# Altium integrated library Infineon_Power_Supply_Voltage_Regulator.IntLib: 346 symbols (part 11 of 16)
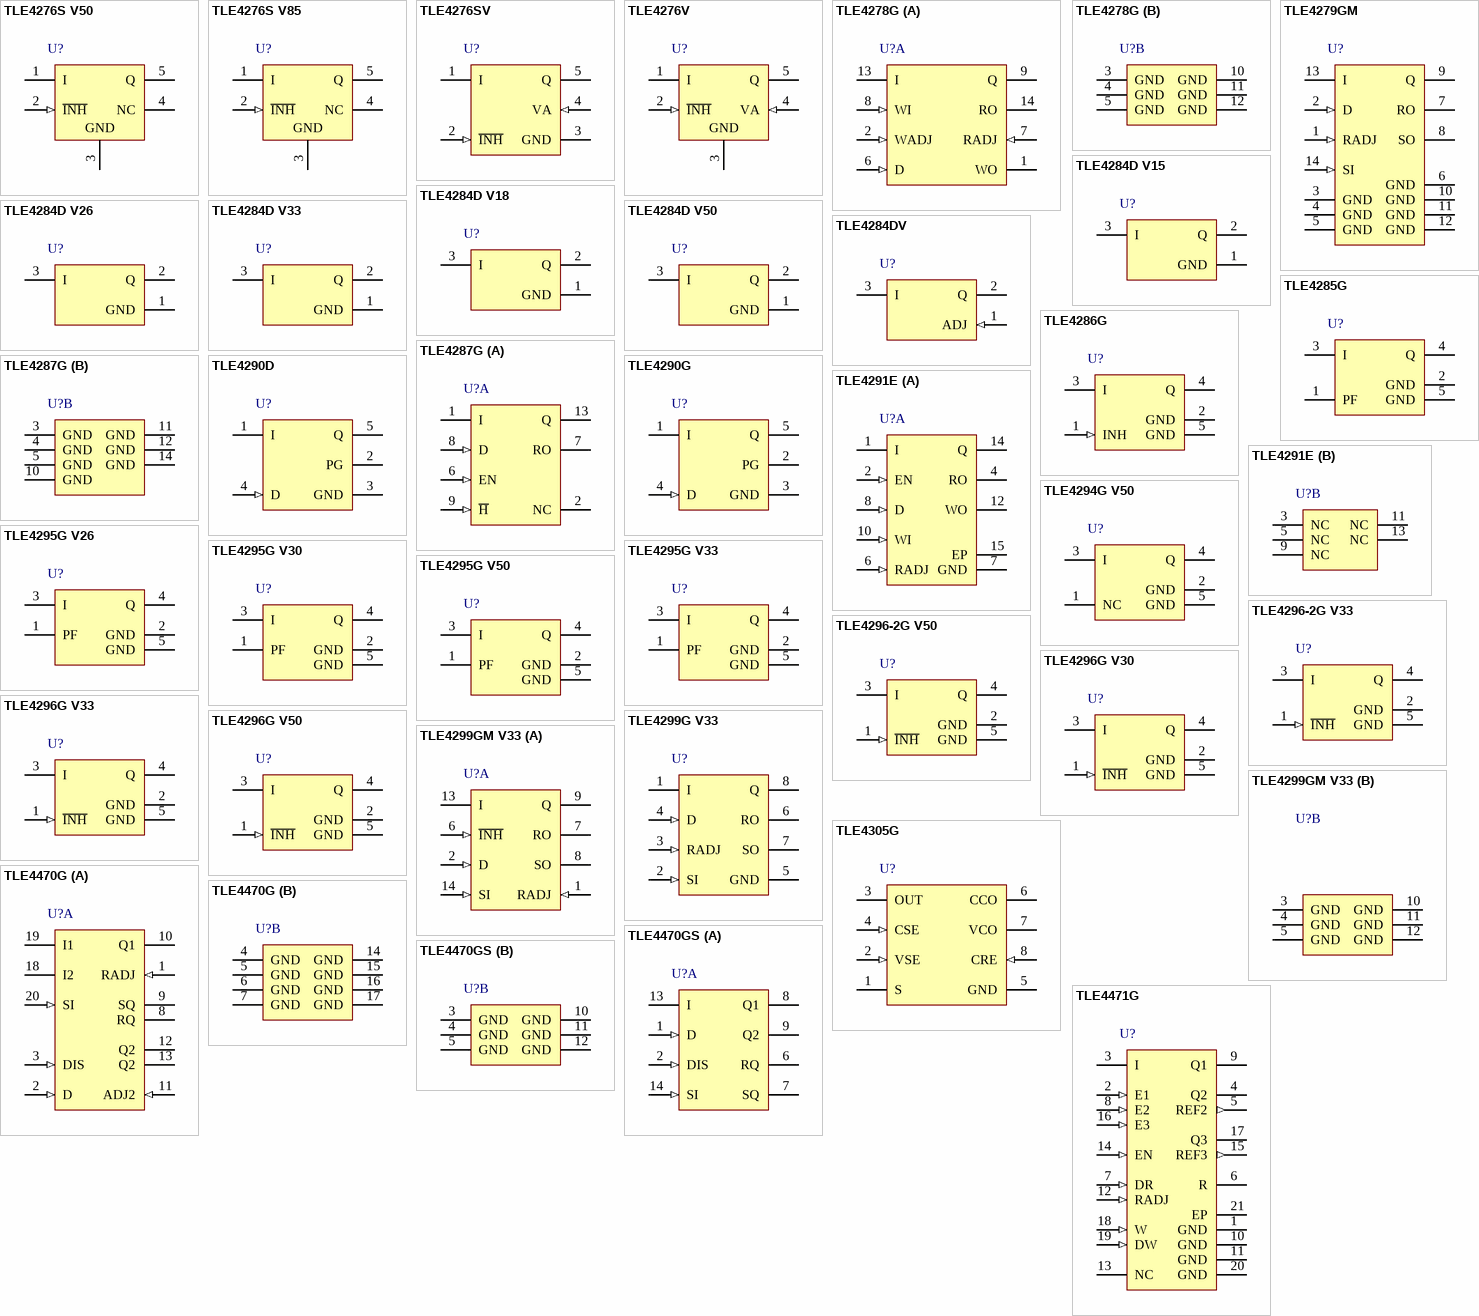
[diagram p19: symbols TLE4276S V50 to TLE4471G]

## TLE4295G V30
designator U?
Low Drop Voltage Regulator, 3.5 to 40 V Supply, 3 V Output, -40 to 150 degC, PG-SCT595, Reel; Manufacturer: Infineon; PartNumber: TLE4295G V30; Accuracy: 4 %; Dropout Voltage: 250 mV; Max. Output Current: 30 mA; Output Voltage: 3 V; Regulator Type: single output; Typical Quiescent Current: 120 uA; DatasheetVersion: Rev. 1.4; PackageVersion: Apr-08; PackageReference: PG-SCT595; PackageDescription: 5-Pin Semiconductor Transistor Package, 2.9 x 1.6 mm Body, 0.95 mm Pitch; Supplier 1: Mouser; Supplier Part Number 1: 726-TLE4295GV30; Supplier 2: Digi-Key; Supplier Part Number 2: TLE4295GV30-ND; Operating Range: 3.5 to 40 V; Packing: Reel; Mounting Technology: Surface Mount; ComponentLink1Description: Manufacturer URL; ComponentLink1URL: http://www.infineon.com/; ComponentLink2Description: Datasheet; ComponentLink2URL: http://www.infineon.com/dgdl/TLE4295_DS_14.pdf?folderId=db3a304412b407950112b4352a0a6276&fileId=db3a304412b407950112b4352a826277&location=en.Products.Automotive_ICs.Linear_Voltage_Regulators_for_Automotive-Applications.Linear_Voltage_Regulators_-_Selection_Table.DATASHEET.TLE4295_DS_14.pdf; ComponentLink3Description: Package Specification; ComponentLink3URL: http://www.infineon.com/dgdl/SCT595-Package_Overview.pdf?folderId=db3a30431936bc4b01195289a4e23b8a&fileId=db3a30431936bc4b0119529a880d3bb2
footprint INF-PG-SCT595_V (SOT23, 5-Leads, Body 2.9x1.6mm, Pitch 0.95mm)
pins: 1 PF (oc) "Power Fail;L for under-voltage", 2 GND (power) "Ground;connected to pin 5", 3 I (power) "Input voltage", 4 Q (power) "Output voltage;must be blocked a capacitor CQ>=2.2uF, ESR<=5 ohm  to GND(Tantalum capasitor recommended as output capacitor)", 5 GND (power) "Ground;connected to pin2"

## TLE4295G V33
designator U?
Low Drop Voltage Regulator, 3.8 to 40 V Supply, 3.3 V Output, -40 to 150 degC, PG-SCT595, Reel, Green; Manufacturer: Infineon; PartNumber: TLE4295G V33; Accuracy: 4 %; Dropout Voltage: 250 mV; Max. Output Current: 30 mA; Output Voltage: 3.3 V; Regulator Type: single output; Typical Quiescent Current: 120 uA; DatasheetVersion: Rev. 1.4; PackageVersion: Apr-08; PackageReference: PG-SCT595; PackageDescription: 5-Pin Semiconductor Transistor Package, 2.9 x 1.6 mm Body, 0.95 mm Pitch; Supplier 1: Mouser; Supplier Part Number 1: 726-TLE4295GV33; Supplier 2: Digi-Key; Supplier Part Number 2: TLE4295G V33-ND; Operating Range: 3.8 to 40 V; Packing: Reel; Mounting Technology: Surface Mount; ComponentLink1Description: Manufacturer URL; ComponentLink1URL: http://www.infineon.com/; ComponentLink2Description: Datasheet; ComponentLink2URL: http://www.infineon.com/dgdl/TLE4295_DS_14.pdf?folderId=db3a304412b407950112b4352a0a6276&fileId=db3a304412b407950112b4352a826277&location=en.Products.Automotive_ICs.Linear_Voltage_Regulators_for_Automotive-Applications.Linear_Voltage_Regulators_-_Selection_Table.DATASHEET.TLE4295_DS_14.pdf; ComponentLink3Description: Package Specification; ComponentLink3URL: http://www.infineon.com/dgdl/SCT595-Package_Overview.pdf?folderId=db3a30431936bc4b01195289a4e23b8a&fileId=db3a30431936bc4b0119529a880d3bb2
footprint INF-PG-SCT595_V (SOT23, 5-Leads, Body 2.9x1.6mm, Pitch 0.95mm)
pins: 1 PF (oc) "Power Fail;L for under-voltage", 2 GND (power) "Ground;connected to pin 5", 3 I (power) "Input voltage", 4 Q (power) "Output voltage;must be blocked a capacitor CQ>=2.2uF, ESR<=5 ohm  to GND(Tantalum capasitor recommended as output capacitor)", 5 GND (power) "Ground;connected to pin2"

## TLE4295G V50
designator U?
Low Drop Voltage Regulator, 5.5 to 45 V Supply, 5 V Output, -40 to 150 degC, PG-SCT595, Reel; Manufacturer: Infineon; PartNumber: TLE4295G V50; Accuracy: 4 %; Dropout Voltage: 250 mV; Max. Output Current: 30 mA; Output Voltage: 5 V; Regulator Type: single output; Typical Quiescent Current: 120 uA; DatasheetVersion: Rev. 1.4; PackageVersion: Apr-08; PackageReference: PG-SCT595; PackageDescription: 5-Pin Semiconductor Transistor Package, 2.9 x 1.6 mm Body, 0.95 mm Pitch; Supplier 1: Mouser; Supplier Part Number 1: 726-TLE4295GV50; Supplier 2: Digi-Key; Supplier Part Number 2: TLE4295GV50TR-ND; Supplier 3: Digi-Key; Supplier Part Number 3: TLE4295GV50CT-ND; Supplier 4: Digi-Key; Supplier Part Number 4: TLE4295GV50DKR-ND; Operating Range: 5.5 to 45 V; Packing: Reel; Mounting Technology: Surface Mount; ComponentLink1Description: Manufacturer URL; ComponentLink1URL: http://www.infineon.com/; ComponentLink2Description: Datasheet; ComponentLink2URL: http://www.infineon.com/dgdl/TLE4295_DS_14.pdf?folderId=db3a304412b407950112b4352a0a6276&fileId=db3a304412b407950112b4352a826277&location=en.Products.Automotive_ICs.Linear_Voltage_Regulators_for_Automotive-Applications.Linear_Voltage_Regulators_-_Selection_Table.DATASHEET.TLE4295_DS_14.pdf; ComponentLink3Description: Package Specification; ComponentLink3URL: http://www.infineon.com/dgdl/SCT595-Package_Overview.pdf?folderId=db3a30431936bc4b01195289a4e23b8a&fileId=db3a30431936bc4b0119529a880d3bb2
footprint INF-PG-SCT595_V (SOT23, 5-Leads, Body 2.9x1.6mm, Pitch 0.95mm)
pins: 1 PF (oc) "Power Fail;L for under-voltage", 2 GND (power) "Ground;connected to pin 5", 3 I (power) "Input voltage", 4 Q (power) "Output voltage;must be blocked a capacitor CQ>=2.2uF, ESR<=5 ohm  to GND(Tantalum capasitor recommended as output capacitor)", 5 GND (power) "Ground;connected to pin2"

## TLE4296-2G V33
designator U?
Low Drop Voltage Regulator, 4 to 45 V Supply, 3.3 V Output, -40 to 150 degC, PG-SCT595, Reel, Green; Manufacturer: Infineon; PartNumber: TLE4296-2G V33; Accuracy: 4 %; Dropout Voltage: 250 mV; Green: TRUE; Max. Output Current: 30 mA; Operating Range: 4 to 45 V; Output Voltage: 3.3 V; Regulator Type: single output; Typical Quiescent Current: 130 uA; DatasheetVersion: Rev. 1.12; PackageVersion: Apr-08; PackageReference: PG-SCT595; PackageDescription: 5-Pin Semiconductor Transistor Package, 2.9 x 1.6 mm Body, 0.95 mm Pitch; Supplier 1: Mouser; Supplier Part Number 1: 726-TLE42962GV33; Supplier 2: Digi-Key; Supplier Part Number 2: TLE4296-2G V33INTR-ND; Supplier 3: Digi-Key; Supplier Part Number 3: TLE4296-2G V33INCT-ND; Supplier 4: Digi-Key; Supplier Part Number 4: TLE4296-2G V33INDKR-ND; Packing: Reel; Mounting Technology: Surface Mount; ComponentLink1Description: Manufacturer URL; ComponentLink1URL: http://www.infineon.com/; ComponentLink2Description: Datasheet; ComponentLink2URL: http://www.infineon.com/dgdl/TLE4296-2_DS_112.pdf?folderId=db3a304314dca38901152836c5a412ab&fileId=db3a304317a748360117cafa28d029b5&location=en.Products.Automotive_ICs.Linear_Voltage_Regulators_for_Automotive-Applications.Linear_Voltage_Regulators_-_Selection_Table.DATASHEET.TLE4296-2_DS_112.pdf; ComponentLink3Description: Package Specification; ComponentLink3URL: http://www.infineon.com/dgdl/SCT595-Package_Overview.pdf?folderId=db3a30431936bc4b01195289a4e23b8a&fileId=db3a30431936bc4b0119529a880d3bb2
footprint INF-PG-SCT595_V (SOT23, 5-Leads, Body 2.9x1.6mm, Pitch 0.95mm)
pins: 1 ~{INH} (in) "Inhibit Input: high level to turn on the IC", 2 GND (power) "Ground: connected to pin 5", 3 I (power) "Input Voltage", 4 Q (power) "Output voltage: must be blocked with a ceramic capacitor CQ >= 3.3 uF, ESR =< 2 ohm", 5 GND (power) "Ground: Connected to pin 2"

## TLE4296-2G V50
designator U?
Low Drop Voltage Regulator, 5.5 to 45 V Supply, 5 V Output, -40 to 150 degC, PG-SCT595, Reel, Green; Manufacturer: Infineon; PartNumber: TLE4296-2G V50; Accuracy: 4 %; Dropout Voltage: 250 mV; Green: TRUE; Max. Output Current: 30 mA; Output Voltage: 5 V; Regulator Type: single output; Typical Quiescent Current: 130 uA; DatasheetVersion: Rev. 1.12; PackageVersion: Apr-08; PackageReference: PG-SCT595; PackageDescription: 5-Pin Semiconductor Transistor Package, 2.9 x 1.6 mm Body, 0.95 mm Pitch; Supplier 1: Mouser; Supplier Part Number 1: 726-TLE42962GV50; Supplier 2: Digi-Key; Supplier Part Number 2: TLE4296-2G V50TR-ND; Supplier 3: Digi-Key; Supplier Part Number 3: TLE4296-2G V50CT-ND; Supplier 4: Digi-Key; Supplier Part Number 4: TLE4296-2G V50DKR-ND; Operating Range: 5.5 to 45 V; Packing: Reel; Mounting Technology: Surface Mount; ComponentLink1Description: Manufacturer URL; ComponentLink1URL: http://www.infineon.com/; ComponentLink2Description: Datasheet; ComponentLink2URL: http://www.infineon.com/dgdl/TLE4296-2_DS_112.pdf?folderId=db3a304314dca38901152836c5a412ab&fileId=db3a304317a748360117cafa28d029b5&location=en.Products.Automotive_ICs.Linear_Voltage_Regulators_for_Automotive-Applications.Linear_Voltage_Regulators_-_Selection_Table.DATASHEET.TLE4296-2_DS_112.pdf; ComponentLink3Description: Package Specification; ComponentLink3URL: http://www.infineon.com/dgdl/SCT595-Package_Overview.pdf?folderId=db3a30431936bc4b01195289a4e23b8a&fileId=db3a30431936bc4b0119529a880d3bb2
footprint INF-PG-SCT595_V (SOT23, 5-Leads, Body 2.9x1.6mm, Pitch 0.95mm)
pins: 1 ~{INH} (in) "Inhibit Input: high level to turn on the IC", 2 GND (power) "Ground: connected to pin 5", 3 I (power) "Input Voltage", 4 Q (power) "Output voltage: must be blocked with a ceramic capacitor CQ >= 3.3 uF, ESR =< 2 ohm", 5 GND (power) "Ground: Connected to pin 2"

## TLE4296G V30
designator U?
Low Drop Voltage Regulator, 4 to 45 V Supply, 3 V Output, -40 to 150 degC, PG-SCT595, Reel, Green; Manufacturer: Infineon; PartNumber: TLE4296G V30; Accuracy: 4 %; Dropout Voltage: 250 mV; Green: TRUE; Max. Output Current: 30 mA; Operating Range: 4 to 45 V; Output Voltage: 3 V; Regulator Type: single output; Typical Quiescent Current: 110 uA; DatasheetVersion: Rev. 1.1; PackageVersion: Apr-08; PackageReference: PG-SCT595; PackageDescription: 5-Pin Semiconductor Transistor Package, 2.9 x 1.6 mm Body, 0.95 mm Pitch; Supplier 1: Mouser; Supplier Part Number 1: 726-TLE4296GV30; Supplier 2: Digi-Key; Supplier Part Number 2: TLE4296G V30-ND; Packing: Reel; Mounting Technology: Surface Mount; ComponentLink1Description: Manufacturer URL; ComponentLink1URL: http://www.infineon.com/; ComponentLink2Description: Datasheet; ComponentLink2URL: http://www.infineon.com/dgdl/TLE4296_DS_11.pdf?folderId=db3a304412b407950112b435337c628d&fileId=db3a304412b407950112b43533f7628e&location=en.Products.Automotive_ICs.Linear_Voltage_Regulators_for_Automotive-Applications.Linear_Voltage_Regulators_-_Selection_Table.DATASHEET.TLE4296_DS_11.pdf; ComponentLink3Description: Package Specification; ComponentLink3URL: http://www.infineon.com/dgdl/SCT595-Package_Overview.pdf?folderId=db3a30431936bc4b01195289a4e23b8a&fileId=db3a30431936bc4b0119529a880d3bb2
footprint INF-PG-SCT595_V (SOT23, 5-Leads, Body 2.9x1.6mm, Pitch 0.95mm)
pins: 1 ~{INH} (in) "Inhibit input;high level to turn IC on", 2 GND (power) "Ground;connected to pin5", 3 I (power) "Input voltage", 4 Q (power) "Output voltage;must be blocked by a capacitaor CQ>=2.2 uF, 3 ohm<=ESR<=10 ohm", 5 GND (power) "Ground;connected to pin2"

## TLE4296G V33
designator U?
Low Drop Voltage Regulator, 4 to 45 V Supply, 3.3 V Output, -40 to 150 degC, PG-SCT595, Reel, Green; Manufacturer: Infineon; PartNumber: TLE4296G V33; Accuracy: 4 %; Dropout Voltage: 250 mV; Max. Output Current: 30 mA; Operating Range: 4 to 45 V; Output Voltage: 3.3 V; Regulator Type: single output; Typical Quiescent Current: 110 uA; DatasheetVersion: Rev. 1.1; PackageVersion: Apr-08; PackageReference: PG-SCT595; PackageDescription: 5-Pin Semiconductor Transistor Package, 2.9 x 1.6 mm Body, 0.95 mm Pitch; Supplier 1: Mouser; Supplier Part Number 1: 726-TLE4296GV33; Supplier 2: Digi-Key; Supplier Part Number 2: TLE4296G V33-ND; Packing: Reel; Mounting Technology: Surface Mount; ComponentLink1Description: Manufacturer URL; ComponentLink1URL: http://www.infineon.com/; ComponentLink2Description: Datasheet; ComponentLink2URL: http://www.infineon.com/dgdl/TLE4296_DS_11.pdf?folderId=db3a304412b407950112b435337c628d&fileId=db3a304412b407950112b43533f7628e&location=en.Products.Automotive_ICs.Linear_Voltage_Regulators_for_Automotive-Applications.Linear_Voltage_Regulators_-_Selection_Table.DATASHEET.TLE4296_DS_11.pdf; ComponentLink3Description: Package Specification; ComponentLink3URL: http://www.infineon.com/dgdl/SCT595-Package_Overview.pdf?folderId=db3a30431936bc4b01195289a4e23b8a&fileId=db3a30431936bc4b0119529a880d3bb2
footprint INF-PG-SCT595_V (SOT23, 5-Leads, Body 2.9x1.6mm, Pitch 0.95mm)
pins: 1 ~{INH} (in) "Inhibit input;high level to turn IC on", 2 GND (power) "Ground;connected to pin5", 3 I (power) "Input voltage", 4 Q (power) "Output voltage;must be blocked by a capacitaor CQ>=2.2uF, 3ohm<=ESR<=10ohm", 5 GND (power) "Ground;connected to pin2"

## TLE4296G V50
designator U?
Low Drop Voltage Regulator, 5.5 to 45 V Supply, 5 V Output, -40 to 150 degC, PG-SCT595, Reel, Green; Manufacturer: Infineon; PartNumber: TLE4296G V50; Accuracy: 4 %; Dropout Voltage: 250 mV; Max. Output Current: 30 mA; Output Voltage: 5 V; Regulator Type: single output; Typical Quiescent Current: 110 uA; DatasheetVersion: Rev. 1.1; PackageVersion: Apr-08; PackageReference: PG-SCT595; PackageDescription: 5-Pin Semiconductor Transistor Package, 2.9 x 1.6 mm Body, 0.95 mm Pitch; Supplier 1: Mouser; Supplier Part Number 1: 726-TLE4296GV50; Supplier 2: Digi-Key; Supplier Part Number 2: TLE4296G V50-ND; Operating Range: 5.5 to 45 V; Packing: Reel; Mounting Technology: Surface Mount; ComponentLink1Description: Manufacturer URL; ComponentLink1URL: http://www.infineon.com/; ComponentLink2Description: Datasheet; ComponentLink2URL: http://www.infineon.com/dgdl/TLE4296_DS_11.pdf?folderId=db3a304412b407950112b435337c628d&fileId=db3a304412b407950112b43533f7628e&location=en.Products.Automotive_ICs.Linear_Voltage_Regulators_for_Automotive-Applications.Linear_Voltage_Regulators_-_Selection_Table.DATASHEET.TLE4296_DS_11.pdf; ComponentLink3Description: Package Specification; ComponentLink3URL: http://www.infineon.com/dgdl/SCT595-Package_Overview.pdf?folderId=db3a30431936bc4b01195289a4e23b8a&fileId=db3a30431936bc4b0119529a880d3bb2
footprint INF-PG-SCT595_V (SOT23, 5-Leads, Body 2.9x1.6mm, Pitch 0.95mm)
pins: 1 ~{INH} (in) "Inhibit input;high level to turn IC on", 2 GND (power) "Ground;connected to pin5", 3 I (power) "Input voltage", 4 Q (power) "Output voltage;must be blocked by a capacitaor CQ>=2.2uF, 3ohm<=ESR<=10ohm", 5 GND (power) "Ground;connected to pin2"

## TLE4299G V33
designator U?
Low Drop Fixed Voltage Regulator, 4.4 to 45 V Supply, 3.3 V Output, -40 to 150 degC, PG-DSO-8-16, Reel, Green; Manufacturer: Infineon; PartNumber: TLE4299G V33; Accuracy: 2 %; Dropout Voltage: 250 mV; Green: TRUE; Max. Output Current: 150 mA; Output Voltage: 3.3 V; Regulator Type: single output; Typical Quiescent Current: 65 uA; DatasheetVersion: Rev. 1.1; PackageVersion: Mar-07; PackageReference: PG-DSO-8-16; PackageDescription: 8-Pin Plastic (Green) Dual Small Outline Package, 4.9 x 3.9 mm Body, 1.27 mm Pitch; Supplier 1: Mouser; Supplier Part Number 1: 726-TLE4299GV33; Supplier 2: Digi-Key; Supplier Part Number 2: TLE4299G V33TR-ND; Supplier 3: Digi-Key; Supplier Part Number 3: TLE4299G V33CT-ND; Supplier 4: Digi-Key; Supplier Part Number 4: TLE4299G V33DKR-ND; Halogen-free: TRUE; Operating Range: 4.4 to 45 V; Packing: Reel; Mounting Technology: Surface Mount; ComponentLink1Description: Manufacturer URL; ComponentLink1URL: http://www.infineon.com/; ComponentLink2Description: Datasheet; ComponentLink2URL: http://www.infineon.com/dgdl/TLE4299v33_DS_11%5B1%5D.pdf?folderId=db3a304318f3fe290118f5a433570040&fileId=db3a30431c48a312011c55c733b0022b&location=en.Products.Automotive_ICs.Linear_Voltage_Regulators_for_Automotive-Applications.Linear_Voltage_Regulators_-_Selection_Table.DATASHEET.TLE4299v33_DS_11[1].pdf; ComponentLink3Description: Package Specification; ComponentLink3URL: http://www.infineon.com/dgdl/TLE7259-2GE_DS_rev12.pdf?folderId=db3a3043163797a6011666d32a0c0de1&fileId=db3a3043163797a6011666d4dbb80de2&location=en.Products.Automotive_ICs.Automotive_Transceivers.LIN_Transceivers.DATASHEET.TLE7259-2GE_DS_rev12.pdf
footprint INF-PG-DSO-8-16_N (SOP, 8-Leads, Body 4.9x3.9mm, Pitch 1.27mm, IPC Medium Density)
footprint INF-PG-DSO-8-16_L (SOP, 8-Leads, Body 4.9x3.9mm, Pitch 1.27mm, IPC High Density)
footprint INF-PG-DSO-8-16_M (SOP, 8-Leads, Body 4.9x3.9mm, Pitch 1.27mm, IPC Low Density)
pins: 1 I (power) "Input; block directly to GND on the IC with a ceramic capacitor.", 2 SI (in) "Sense Input; if not needed connect to Q.", 3 RADJ (in) "Reset Threshold Adjust; if not needed connect to GND.", 4 D (in) "Reset Delay; to select delay time, connect to GND via external  capacitor.", 5 GND (power) "Ground", 6 RO (oc) "Reset Output; the open-collector output is linked internally to Q  via a 20k ohm pull-up resistor. Keep open, if the pin is not needed.", 7 SO (oc) "Sense Output; open-collector output. Keep open, if the pin is not  needed.", 8 Q (power) "Output; connect to GND with a 22 uF capacitor, 0.4 ohm <  ESR < 3.7 ohm."

## TLE4299GM V33
designator U?
Low Drop Fixed Voltage Regulator, 4.4 to 45 V Supply, 3.3 V Output, -40 to 150 degC, PG-DSO-14-30, Reel, Green; Manufacturer: Infineon; PartNumber: TLE4299GM V33; Accuracy: 2 %; Dropout Voltage: 250 mV; Green: TRUE; Max. Output Current: 150 mA; Output Voltage: 3.3V; Regulator Type: single output; Typical Quiescent Current: 65 uA; DatasheetVersion: Rev. 1.1; PackageVersion: Oct-07; PackageReference: PG-DSO-14-30; PackageDescription: 14-Pin Plastic (Green) Dual Small Outline Package, 8.65 x 3.9 mm Body, 1.27 mm Pitch; Supplier 1: Mouser; Supplier Part Number 1: 726-TLE4299GMV33; Supplier 2: Digi-Key; Supplier Part Number 2: TLE4299GM V33INTR-ND; Supplier 3: Digi-Key; Supplier Part Number 3: TLE4299GM V33INCT-ND; Supplier 4: Digi-Key; Supplier Part Number 4: TLE4299GM V33INDKR-ND; Halogen-free: TRUE; Operating Range: 4.4 to 45 V; Packing: Reel; Mounting Technology: Surface Mount; ComponentLink1Description: Manufacturer URL; ComponentLink1URL: http://www.infineon.com/; ComponentLink2Description: Datasheet; ComponentLink2URL: http://www.infineon.com/dgdl/TLE4299v33_DS_11%5B1%5D.pdf?folderId=db3a304318f3fe290118f5a433570040&fileId=db3a30431c48a312011c55c733b0022b&location=en.Products.Automotive_ICs.Linear_Voltage_Regulators_for_Automotive-Applications.Linear_Voltage_Regulators_-_Selection_Table.DATASHEET.TLE4299v33_DS_11[1].pdf; ComponentLink3Description: Package Specification; ComponentLink3URL: http://www.infineon.com/dgdl/TLE4299v33_DS_11%5B1%5D.pdf?folderId=db3a304318f3fe290118f5a433570040&fileId=db3a30431c48a312011c55c733b0022b&sId=db3a30433d68e984013d8b6475e4267b
footprint INF-PG-DSO-14-30_N (SOP, 14-Leads, Body 8.65x3.9mm, Pitch 1.27mm, IPC Medium Density)
footprint INF-PG-DSO-14-30_L (SOP, 14-Leads, Body 8.65x3.9mm, Pitch 1.27mm, IPC High Density)
footprint INF-PG-DSO-14-30_M (SOP, 14-Leads, Body 8.65x3.9mm, Pitch 1.27mm, IPC Low Density)
part A pins: 1 RADJ (in) "Reset Threshold Adjust; if not needed connect to GND.", 2 D (in) "Reset Delay; connect to GND via external delay capacitor for  setting delay time.", 6 ~{INH} (in) "Inhibit: If not needed connect to Input pin I; A high signal  switches the regulator ON.", 7 RO (oc) "Reset Output; the open-collector output is linked internally to Q  via a 20k ohm pull-up resistor. Keep open, if the pin is not needed", 8 SO (oc) "Sense Output; open-collector output. Keep open, if the pin is not  needed", 9 Q (power) "Output; connect to GND with a 22 uF capacitor, 0.4 ohm <  ESR < 3.7 ohm.", 13 I (power) "Input; block to GND directly at the IC by a ceramic capacitor.", 14 SI (in) "Sense Input; if not needed connect to Q."
part B pins: 3 GND (power) "Ground", 4 GND (power) "Ground", 5 GND (power) "Ground", 10 GND (power) "Ground", 11 GND (power) "Ground", 12 GND (power) "Ground"

## TLE4305G
designator U?
Voltage-Current Regulator, 8 to 42 V Operating, -40 to 150 degC, PG-DSO-8-16, Reel, Green; Manufacturer: Infineon; PartNumber: TLE4305G; Accuracy: 2.0 %; Automotive Qualified: TRUE; Max Number Reflow: 3; Max Peak Reflow Temp: 260 degC; Max. Output Current: adj.; Regulator Type: voltage-current controller for switched power supplies; Reset: FALSE; DatasheetVersion: Rev. 2.2; PackageVersion: Mar-07; PackageReference: PG-DSO-8-16; PackageDescription: 8-Pin Plastic (Green) Dual Small Outline Package, 4.9 x 3.9 mm Body, 1.27 mm Pitch; Supplier 1: Mouser; Supplier Part Number 1: 726-TLE4305G; Supplier 2: Digi-Key; Supplier Part Number 2: TLE4305G-ND; Green: TRUE; Halogen-free: TRUE; MSL: 3; Output Voltage: adj.; Packing: Reel; Status Output: FALSE; Mounting Technology: Surface Mount; ComponentLink1Description: Manufacturer URL; ComponentLink1URL: http://www.infineon.com/; ComponentLink2Description: Datasheet; ComponentLink2URL: http://www.infineon.com/dgdl/TLE4305_DS_22.pdf?folderId=db3a304314dca3890115039cf70d0bf0&fileId=db3a30431f848401011fb74733fc58fa; ComponentLink3Description: Package Specification; ComponentLink3URL: http://www.infineon.com/dgdl/TLE7259-2GE_DS_rev12.pdf?folderId=db3a3043163797a6011666d32a0c0de1&fileId=db3a3043163797a6011666d4dbb80de2&location=en.Products.Automotive_ICs.Automotive_Transceivers.LIN_Transceivers.DATASHEET.TLE7259-2GE_DS_rev12.pdf
footprint INF-PG-DSO-8-16_N (SOP, 8-Leads, Body 4.9x3.9mm, Pitch 1.27mm, IPC Medium Density)
footprint INF-PG-DSO-8-16_L (SOP, 8-Leads, Body 4.9x3.9mm, Pitch 1.27mm, IPC High Density)
footprint INF-PG-DSO-8-16_M (SOP, 8-Leads, Body 4.9x3.9mm, Pitch 1.27mm, IPC Low Density)
pins: 1 S (power) "Supply voltage.", 2 VSE (in) "Voltage sense input.", 3 OUT (power) "Output", 4 CSE (in) "Current sense input1.", 5 GND (power) "Ground.", 6 CCO (power) "Current compensation output.", 7 VCO (power) "Voltage compensation output.", 8 CRE (in) "Current-OTA reference input."

## TLE4470G
designator U?
Dual Low Drop Voltage Regulator, 5.6 to 45 V Supply, 5 V Output, -40 to 150 degC, PG-DSO-20-31, Reel, Green; Manufacturer: Infineon; PartNumber: TLE4470G; Accuracy: 2 %, 2 %; Dropout Voltage: 300 mV, 300 mV; Green: TRUE; Max. Output Current: 100 mA, 250 mA; Operating Range: 5.6 to 45 V 5.6 to 45 V; Output Voltage: 5V; Regulator Type: multiple output; Typical Quiescent Current: 180 uA, 250 uA; DatasheetVersion: Rev. 1.2; PackageVersion: Jan-12; PackageReference: PG-DSO-20-31; PackageDescription: 20-Pin Plastic (Green) Dual Small Outline Package, 12.7 x 7.5 mm Body, 1.27 mm Pitch; Supplier 1: Mouser; Supplier Part Number 1: 726-TLE4470G; Supplier 2: Digi-Key; Supplier Part Number 2: TLE4470GTR-ND; Supplier 3: Digi-Key; Supplier Part Number 3: TLE4470GCT-ND; Supplier 4: Digi-Key; Supplier Part Number 4: TLE4470GDKR-ND; Halogen-free: TRUE; Packing: Reel; Mounting Technology: Surface Mount; ComponentLink1Description: Manufacturer URL; ComponentLink1URL: http://www.infineon.com/; ComponentLink2Description: Datasheet; ComponentLink2URL: http://www.infineon.com/dgdl/TLE4470_DS_12%5B1%5D.pdf?folderId=db3a304314dca3890115039cf70d0bf0&fileId=db3a304320d39d5901217773f53c7908&location=en.Products.Automotive_ICs.Linear_Voltage_Regulators_for_Automotive-Applications.Linear_Voltage_Regulators_-_Selection_Table.DATASHEET.TLE4470_DS_12[1].pdf; ComponentLink3Description: Package Specification; ComponentLink3URL: http://www.infineon.com/dgdl/BTS711L1_DS13.pdf?folderId=db3a304314dca389011537739e37155f&fileId=db3a30432239cccd0122e55f98d43c5f&sId=db3a30433d68e984013d81ad4c8d73f2
footprint INF-PG-DSO-20-31_N (SOP, 20-Leads, Body 12.7x7.5mm, Pitch 1.27mm, IPC High Density)
footprint INF-PG-DSO-20-31_L (SOP, 20-Leads, Body 12.7x7.5mm, Pitch 1.27mm, IPC High Density)
footprint INF-PG-DSO-20-31_M (SOP, 20-Leads, Body 12.7x7.5mm, Pitch 1.27mm, IPC Low Density)
part A pins: 1 RADJ (in) "Reset switching threshold adjust; for setting the reset switching threshold connect to a voltage divider from Q1 to GND. If this input is connected to GND, the reset is triggered at the internal threshold.", 2 D (in) "Reset delay; connect a capacitor CD to GND for delay time adjustment", 3 DIS (in) "Disable input main regulator; Q2 disabled with high signal", 8 RQ (oc) "Reset output; the open collector output is connected to Q1 via an integrated 30 k ohm resistor", 9 SQ (oc) "Sense output; the open collector output is connected to Q1 via an integrated 30 k ohm resistor", 10 Q1 (power) "Stand-by regulator output voltage; block to GND with a capacitor CQ1 >= 6 uF, ESR < 10 ohm at 10 kHz", 11 ADJ2 (in) "Main regulator adjust input; Q2 can be set to higher values than 5 V by an external voltage divider from Q2 to GND", 12 Q2 (power) "Main regulator output voltage; block to GND with a capacitor CQ2 >= 10 uF, ESR < 10 ohm at 10 kHz", 13 Q2 (power) "Main regulator output voltage; block to GND with a capacitor CQ2 >= 10 uF, ESR < 10 ohm at 10 kHz", 18 I2 (power) "Main regulator input voltage; block to GND directly at the IC with a ceramic capacitor", 19 I1 (power) "Stand-by regulator input voltage; block to GND directly at the IC with a ceramic capacitor", 20 SI (in) "Sense comparator input"
part B pins: 4 GND (power) "Ground", 5 GND (power) "Ground", 6 GND (power) "Ground", 7 GND (power) "Ground", 14 GND (power) "Ground", 15 GND (power) "Ground", 16 GND (power) "Ground", 17 GND (power) "Ground"

## TLE4470GS
designator U?
Dual Low Drop Voltage Regulator, 5.6 to 45 V Supply, 5 V Output, -40 to 150 degC, PG-DSO-14-37, Reel, Green; Manufacturer: Infineon; PartNumber: TLE4470GS; Accuracy: 2 %, 2 %; Dropout Voltage: 300 mV, 300 mV; Green: TRUE; Max. Output Current: 100 mA, 250 mA; Operating Range: 5.6 to 45 V 5.6 to 45 V; Output Voltage: 5V; Regulator Type: multiple output; Typical Quiescent Current: 180 uA, 250 uA; DatasheetVersion: Rev. 1.2; PackageVersion: Sep-07; PackageReference: PG-DSO-14-37; PackageDescription: 14-Pin Plastic (Green) Dual Small Outline Package, 8.65 x 3.9 mm Body, 1.27 mm Pitch; Supplier 1: Mouser; Supplier Part Number 1: 726-TLE4470GS; Supplier 2: Digi-Key; Supplier Part Number 2: TLE4470GSTR-ND; Supplier 3: Digi-Key; Supplier Part Number 3: TLE4470GSCT-ND; Supplier 4: Digi-Key; Supplier Part Number 4: TLE4470GSDKR-ND; Halogen-free: TRUE; Packing: Reel; Mounting Technology: Surface Mount; ComponentLink1Description: Manufacturer URL; ComponentLink1URL: http://www.infineon.com/; ComponentLink2Description: Datasheet; ComponentLink2URL: http://www.infineon.com/dgdl/TLE4470_DS_12%5B1%5D.pdf?folderId=db3a304314dca3890115039cf70d0bf0&fileId=db3a304320d39d5901217773f53c7908&location=en.Products.Automotive_ICs.Linear_Voltage_Regulators_for_Automotive-Applications.Linear_Voltage_Regulators_-_Selection_Table.DATASHEET.TLE4470_DS_12[1].pdf; ComponentLink3Description: Package Specification; ComponentLink3URL: http://www.infineon.com/dgdl/BTS723GWDS11_2007_09_25.pdf?folderId=db3a304314dca389011537739e37155f&fileId=db3a304331c8f8560131dbfec21b0da9&sId=db3a30443d67b5ca013d854df2f133e5
footprint INF-PG-DSO-14-37_N (SOP, 14-Leads, Body 8.65x3.9mm, Pitch 1.27mm, IPC Medium Density)
footprint INF-PG-DSO-14-37_L (SOP, 14-Leads, Body 8.65x3.9mm, Pitch 1.27mm, IPC High Density)
footprint INF-PG-DSO-14-37_M (SOP, 14-Leads, Body 8.65x3.9mm, Pitch 1.27mm, IPC Low Density)
part A pins: 1 D (in) "Reset delay; connect a capacitor CD to GND for delay time adjustment", 2 DIS (in) "Disable input main regulator; Q2 disabled with high signal", 6 RQ (oc) "Reset output; the open collector output is connected to Q1 via an integrated 30 k ohm resistor", 7 SQ (oc) "Sense output; the open collector output is connected to Q1 via an integrated 30 k ohm resistor", 8 Q1 (power) "Stand-by regulator output voltage; block to GND with a capacitor, CQ1 >= 6 uF, ESR < 10 ohm at 10 kHz", 9 Q2 (power) "Main regulator output voltage; 5 V output tracking to Q1, block to GND with a capacitor CQ2 >= 10 uF, ESR < 10 ohm at 10 kHz", 13 I (power) "Main and stand-by regulator input voltage; block to GND directly at the IC with a ceramic capacitor", 14 SI (in) "Sense comparator input"
part B pins: 3 GND (power) "Ground", 4 GND (power) "Ground", 5 GND (power) "Ground", 10 GND (power) "Ground", 11 GND (power) "Ground", 12 GND (power) "Ground"

## TLE4471G
designator U?
Triple Voltage Regulator, 5.5 to 40 V Supply, 5 V Output, -40 to 150 degC, PG-DSO-20-37, Reel, Green; Manufacturer: Infineon; PartNumber: TLE4471G; Accuracy: 2 % 0.5 % 0.5 %; Dropout Voltage: 250 mV; Green: TRUE; Max. Output Current: 450 mA 100 mA 50 mA; Output Voltage: 5V tracker tracker; Regulator Type: multiple output; Typical Quiescent Current: 1800 uA; DatasheetVersion: Rev. 1.6; PackageReference: PG-DSO-20-37; PackageDescription: 20-Pin Plastic (Green) Dual Small Outline Package, 15.9 x 11 mm Body, 1.27 mm Pitch; Supplier 1: Mouser; Supplier Part Number 1: 726-TLE4471G; Supplier 2: Digi-Key; Supplier Part Number 2: TLE4471GTR-ND; Supplier 3: Digi-Key; Supplier Part Number 3: TLE4471GCT-ND; Supplier 4: Digi-Key; Supplier Part Number 4: TLE4471GDKR-ND; Halogen-free: TRUE; Operating Range: 5.5 to 40 V; Packing: Reel; Mounting Technology: Surface Mount; ComponentLink1Description: Manufacturer URL; ComponentLink1URL: http://www.infineon.com/; ComponentLink2Description: Datasheet; ComponentLink2URL: http://www.infineon.com/dgdl/TLE4471_DS_16.pdf?folderId=db3a304314dca38901152836c5a412ab&fileId=db3a30431ff9881501201f6b111f4cf1&location=en.Products.Automotive_ICs.Linear_Voltage_Regulators_for_Automotive-Applications.Linear_Voltage_Regulators_-_Selection_Table.DATASHEET.TLE4471_DS_16.pdf; ComponentLink3Description: Package Specification; ComponentLink3URL: http://www.infineon.com/cms/packages/SMD_-_Surface_Mounted_Devices/P-PG-DSO/P-PG-DSO-20-10x_-12x_-13x_-16x_-33x_-34x_-37x_-48x_-50.html?__locale=en
footprint INF-PG-DSO-20-37_N (SOP, 20-Leads, Body 15.9x11mm, Pitch 1.27mm, Thermal Pad 15.84x6mm, IPC Medium Density)
footprint INF-PG-DSO-20-37_L (SOP, 20-Leads, Body 15.9x11mm, Pitch 1.27mm, Thermal Pad 15.84x6mm, IPC High Density)
footprint INF-PG-DSO-20-37_M (SOP, 20-Leads, Body 15.9x11mm, Pitch 1.27mm, Thermal Pad 15.84x6mm, IPC Low Density)
pins: 1 GND (power) "GROUND; all four pins connected to the heat sink", 2 E1 (in) "Enable 1; Enable for Main Output Q1 and Q2; E1, E2 and E3 are ored together; connect to GND, if not needed.", 3 I (power) "Input; block to ground directly at the IC for line compensation.", 4 Q2 (power) "Tracking Output Q2; block to GND with min. 10 uF with ESR < 3 ohm.", 5 REF2 (out) "Reference Output; Reterence Voltage related to Q2.", 6 R (oc) "Reset Output; the open collector Output is connected to Q1 via an integrated resistor.", 7 DR (in) "Reset Delay; connect a capacitor to GND for reset delay time adjustment.", 8 E2 (in) "Enable 2; Enable for Main Output Q1 and Q2; E1, E2 and E3 are ored together; connect to GND, if not needed.", 9 Q1 (power) "Main Output Q1; block to GND with min. 22 uF, ESR < 3 ohm.", 10 GND (power) "GROUND; all four pins connected to the heat sink", 11 GND (power) "GROUND; all four pins connected to the heat sink", 12 RADJ (in) "Reset Switching Threshold Adjust; The reset threshold can be set individually with an external voltage divider at the pin. If it is connected straight to GND the reset threshold remains at 4.65 V.", 13 NC "Not Connected", 14 EN (in) "Enable Input; enables Q3", 15 REF3 (out) "Reference Output; Reference Voltage related to Q3.", 16 E3 (in) "Enable 3; Enable for Main Output Q1 and Q2; E1, E2 and E3 are ored together; connect to GND, if not needed.", 17 Q3 (power) "Tracker Output Q3; block to GND with min. 10uF with ESR < 3 ohm.", 18 W (in) "Watchdog Trigger Input; positive edge triggered input for monitoring a microcontroller.", 19 DW (in) "Watchdog Delay; connect a capacitor to GND for watchdog trigger time adjustment.", 20 GND (power) "GROUND; all four pins connected to the heat sink", 21 EP

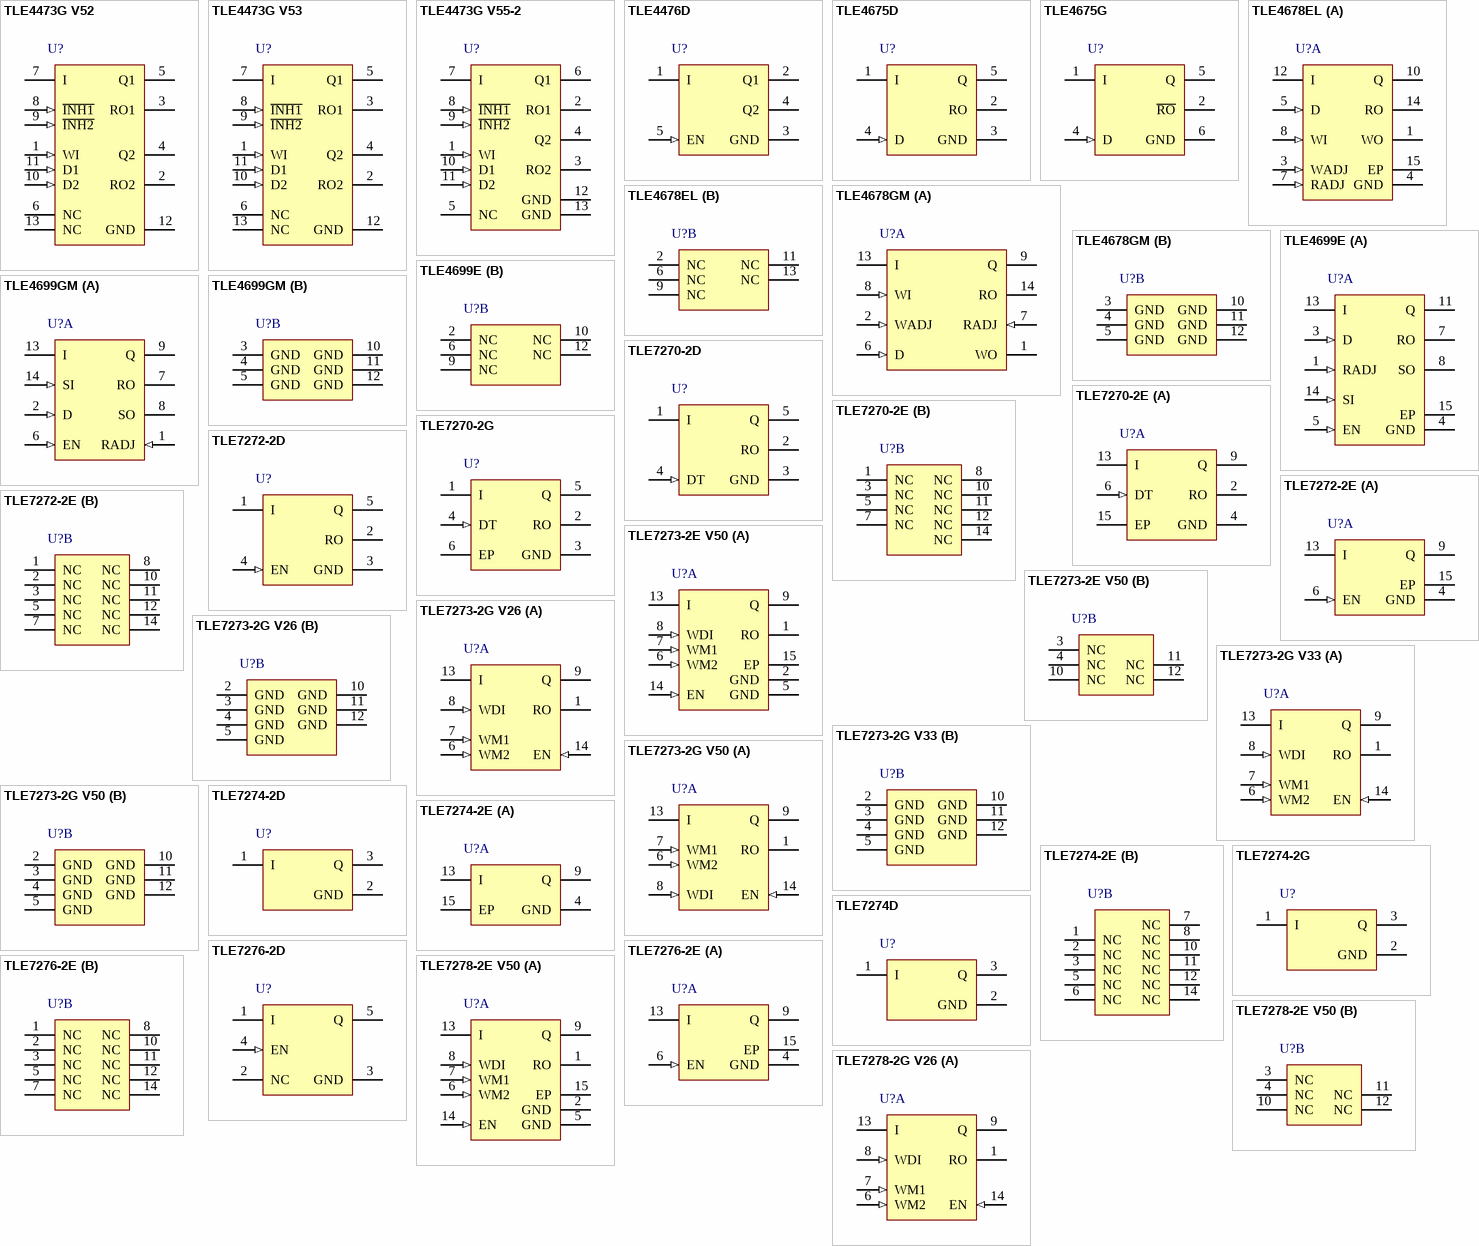
[diagram p7: symbols TLE4473G V52 to TLE7278-2G V26]

## TLE4473G V52
designator U?
Dual Low Drop Voltage Regulator, 5.6 to 42 V Supply, 5 V Output, -40 to 150 degC, PG-DSO-12-4, Reel, Green; Manufacturer: Infineon; PartNumber: TLE4473G V52; Accuracy: 3 % 2 %; Dropout Voltage: 300 mV; Green: TRUE; Max. Output Current: 300 mA 180 mA; Output Voltage: 2.6V 5V; Regulator Type: multiple output; Typical Quiescent Current: 250 uA; DatasheetVersion: Rev. 1.1; PackageVersion: Sep-08; PackageReference: PG-DSO-12-4; PackageDescription: 12-Pin Plastic (Green) Dual Small Outline Package, 6.4 x 7.5 mm Body, 1 mm Pitch; Supplier 1: Digi-Key; Supplier Part Number 1: TLE4473G V52TR-ND; Supplier 2: Digi-Key; Supplier Part Number 2: TLE4473G V52CT-ND; Supplier 3: Digi-Key; Supplier Part Number 3: TLE4473G V52DKR-ND; Halogen-free: TRUE; Operating Range: 5.6 to 42 V; Packing: Reel; Mounting Technology: Surface Mount; ComponentLink1Description: Manufacturer URL; ComponentLink1URL: http://www.infineon.com/; ComponentLink2Description: Datasheet; ComponentLink2URL: http://www.infineon.com/dgdl/TLE4473GV52-53_DS_11%5B1%5D.pdf?folderId=db3a30431ff988150120802bce1d257a&fileId=db3a30431ff988150120802d92102580&location=en.Products.Automotive_ICs.Linear_Voltage_Regulators_for_Automotive-Applications.Linear_Voltage_Regulators_-_Selection_Table.DATASHEET.TLE4473GV52-53_DS_11[1].pdf; ComponentLink3Description: Package Specification; ComponentLink3URL: http://www.infineon.com/dgdl/TLE4473GV52-53_DS_11%5B1%5D.pdf?folderId=db3a30431ff988150120802bce1d257a&fileId=db3a30431ff988150120802d92102580&location=en.Products.Automotive_ICs.Linear_Voltage_Regulators_for_Automotive-Applications.Linear_Voltage_Regulators_-_Selection_Table.DATASHEET.TLE4473GV52-53_DS_11[1].pdf
footprint INF-PG-DSO-12-4_N (SOP, 12-Leads, Body 7.5x6.4mm, Pitch 1mm, Thermal Pad 7.9x4.3mm, IPC Medium Density)
footprint INF-PG-DSO-12-4_L (SOP, 12-Leads, Body 7.5x6.4mm, Pitch 1mm, Thermal Pad 7.9x4.3mm, IPC High Density)
footprint INF-PG-DSO-12-4_M (SOP, 12-Leads, Body 7.5x6.4mm, Pitch 1mm, Thermal Pad 7.9x4.3mm, IPC Low Density)
pins: 1 WI (in) "Watchdog input; input for watchdog pulses, positive edge triggered", 2 RO2 (oc) "Reset output for Q2; open collector output", 3 RO1 (oc) "Reset and watchdog output for Q1; open collector output", 4 Q2 (power) "Output voltage 2 (5 V); block to GND with a capacitor CQ2 >= 22 uF, ESR < 5 ohm at 10 kHz or CQ2 >= 10 uF, ESR < 4 ohm at 10 kHz", 5 Q1 (power) "Output voltage 1 (3.3 V/2.6 V); block to GND with a capacitor CQ1 >= 10 uF, ESR < 5 ohm at 10 kHz", 6 NC "Not connected; connect to GND", 7 I (power) "Input voltage; block to GND directly at the IC with a ceramic capacitor", 8 ~{INH1} (in) "Inhibit input 1; low level at I\N\H\2\ and I\N\H\1\ disables Q2 and Q1", 9 ~{INH2} (in) "Inhibit input 2; low level disables Q2", 10 D2 (in) "Reset Delay 2; connect a capacitor to set reset delay for Q2", 11 D1 (in) "Reset Delay 1; connect a capacitor to GND to set reset delay and watchdog timing for Q1", 12 GND (power) "Ground", 13 NC "Not connected; connect to GND"

## TLE4473G V53
designator U?
Dual Low Drop Voltage Regulator, 5.6 to 42 V Supply, 3.3 V Output, -40 to 150 degC, PG-DSO-12-4, Reel, Green; Manufacturer: Infineon; PartNumber: TLE4473G V53; Accuracy: 3 % 2 %; Dropout Voltage: 300 mV; Green: TRUE; Max. Output Current: 300 mA 180 mA; Output Voltage: 3.3V; Regulator Type: multiple output; Typical Quiescent Current: 250 uA; DatasheetVersion: Rev. 1.1; PackageVersion: Sep-08; PackageReference: PG-DSO-12-4; PackageDescription: 12-Pin Plastic (Green) Dual Small Outline Package, 6.4 x 7.5 mm Body, 1 mm Pitch; Supplier 1: Digi-Key; Supplier Part Number 1: TLE4473G V53TR-ND; Supplier 2: Digi-Key; Supplier Part Number 2: TLE4473G V53CT-ND; Supplier 3: Digi-Key; Supplier Part Number 3: TLE4473G V53DKR-ND; Halogen-free: TRUE; Operating Range: 5.6 to 42 V; Packing: Reel; Mounting Technology: Surface Mount; ComponentLink1Description: Manufacturer URL; ComponentLink1URL: http://www.infineon.com/; ComponentLink2Description: Datasheet; ComponentLink2URL: http://www.infineon.com/dgdl/TLE4473GV52-53_DS_11%5B1%5D.pdf?folderId=db3a30431ff988150120802bce1d257a&fileId=db3a30431ff988150120802d92102580&location=en.Products.Automotive_ICs.Linear_Voltage_Regulators_for_Automotive-Applications.Linear_Voltage_Regulators_-_Selection_Table.DATASHEET.TLE4473GV52-53_DS_11[1].pdf; ComponentLink3Description: Package Specification; ComponentLink3URL: http://www.infineon.com/dgdl/TLE4473GV52-53_DS_11%5B1%5D.pdf?folderId=db3a30431ff988150120802bce1d257a&fileId=db3a30431ff988150120802d92102580&location=en.Products.Automotive_ICs.Linear_Voltage_Regulators_for_Automotive-Applications.Linear_Voltage_Regulators_-_Selection_Table.DATASHEET.TLE4473GV52-53_DS_11[1].pdf
footprint INF-PG-DSO-12-4_N (SOP, 12-Leads, Body 7.5x6.4mm, Pitch 1mm, Thermal Pad 7.9x4.3mm, IPC Medium Density)
footprint INF-PG-DSO-12-4_L (SOP, 12-Leads, Body 7.5x6.4mm, Pitch 1mm, Thermal Pad 7.9x4.3mm, IPC High Density)
footprint INF-PG-DSO-12-4_M (SOP, 12-Leads, Body 7.5x6.4mm, Pitch 1mm, Thermal Pad 7.9x4.3mm, IPC Low Density)
pins: 1 WI (in) "Watchdog input; input for watchdog pulses, positive edge triggered", 2 RO2 (oc) "Reset output for Q2; open collector output", 3 RO1 (oc) "Reset and watchdog output for Q1; open collector output", 4 Q2 (power) "Output voltage 2 (5 V); block to GND with a capacitor CQ2 >= 22 uF, ESR < 5 ohm at 10 kHz or CQ2 >= 10 uF, ESR < 4 ohm at 10 kHz", 5 Q1 (power) "Output voltage 1 (3.3 V/2.6 V); block to GND with a capacitor CQ1 >= 10 uF, ESR < 5 ohm at 10 kHz", 6 NC "Not connected; connect to GND", 7 I (power) "Input voltage; block to GND directly at the IC with a ceramic capacitor", 8 ~{INH1} (in) "Inhibit input 1; low level at I\N\H\2\ and I\N\H\1\ disables Q2 and Q1", 9 ~{INH2} (in) "Inhibit input 2; low level disables Q2", 10 D2 (in) "Reset Delay 2; connect a capacitor to set reset delay for Q2", 11 D1 (in) "Reset Delay 1; connect a capacitor to GND to set reset delay and watchdog timing for Q1", 12 GND (power) "Ground", 13 NC "Not connected; connect to GND"

## TLE4473G V55-2
designator U?
Dual Low Drop Out Voltage Regulator, 5.6 to 42 V Supply, 5 V Output, -40 to 150 degC, PG-DSO-12-11, Reel, Green; Manufacturer: Infineon; PartNumber: TLE4473G V55-2; Accuracy: 2.5 % 2 %; Dropout Voltage: 200 mV; Green: TRUE; Max. Output Current: 300 mA 190 mA; Output Voltage: 5V 5V; Regulator Type: multiple output; Typical Quiescent Current: 250 uA; DatasheetVersion: Rev. 1.2; PackageVersion: Jun-08; PackageReference: PG-DSO-12-11; PackageDescription: 12-Pin Plastic (Green) Dual Small Outline Package, 6.4 x 7.5 mm Body, 1 mm Pitch; Supplier 1: Mouser; Supplier Part Number 1: 726-TLE4473GV55-2; Supplier 2: Digi-Key; Supplier Part Number 2: TLE4473G V55-2INTR-ND; Supplier 3: Digi-Key; Supplier Part Number 3: TLE4473G V55-2INCT-ND; Supplier 4: Digi-Key; Supplier Part Number 4: TLE4473G V55-2INDKR-ND; Halogen-free: TRUE; Operating Range: 5.6 to 42 V; Packing: Reel; Mounting Technology: Surface Mount; ComponentLink1Description: Manufacturer URL; ComponentLink1URL: http://www.infineon.com/; ComponentLink2Description: Datasheet; ComponentLink2URL: http://www.infineon.com/dgdl/TLE4473GV55-2_DS_12.pdf?folderId=db3a304314dca38901152836c5a412ab&fileId=db3a304317a748360117ca427d842991&location=en.Products.Automotive_ICs.Linear_Voltage_Regulators_for_Automotive-Applications.Linear_Voltage_Regulators_-_Selection_Table.DATASHEET.TLE4473GV55-2_DS_12.pdf; ComponentLink3Description: Package Specification; ComponentLink3URL: http://www.infineon.com/dgdl/PG-DSO-12-4%2C-5%2C-8%2C-11%2C-12%2C-16-Package_Overview.pdf?folderId=db3a30431a5c32f2011a96d8abf9584d&fileId=db3a30431a5c32f2011a96ea67ce586f
footprint INF-PG-DSO-12-11_N (SOP, 12-Leads, Body 7.5x6.4mm, Pitch 1mm, Thermal Pad 7.9x4.3mm, IPC Medium Density)
footprint INF-PG-DSO-12-11_L (SOP, 12-Leads, Body 7.5x6.4mm, Pitch 1mm, Thermal Pad 7.9x4.3mm, IPC High Density)
footprint INF-PG-DSO-12-11_M (SOP, 12-Leads, Body 7.5x6.4mm, Pitch 1mm, Thermal Pad 7.9x4.3mm, IPC Low Density)
pins: 1 WI (in) "Watchdog input; input for watchdog pulses, positive edge triggered.", 2 RO1 (oc) "Reset and watchdog output for Q1; open collector output.Connect to pull-up resistor.", 3 RO2 (oc) "Reset output 2; open collector output. Connect to pull-up resistor.", 4 Q2 (power) "Stand-by regulator output voltage; block to GND with a capacitor CQ2 >=10 uF, ESR < 5 ohm at 10 kHz.", 5 NC "Internally not connected; connect to GND.", 6 Q1 (power) "Main regulator output voltage; output voltage tracked to Q2 voltage; block to GND with a capacitor CQ1 >=10 uF, ESR < 3 ohm at 10 kHz.", 7 I (power) "Input voltage; block to ground directly at the IC with a ceramic capacitor.", 8 ~{INH1} (in) "Inhibit input 1; low level disables Q1, integrated pull-down resistor.", 9 ~{INH2} (in) "Inhibit input 2; low level at l\N\H\2\ and I\N\H\1\ disables Q2 and Q1,integrated pull-down resistor", 10 D1 (in) "Reset Delay 1; connect to ground via a capacitor to set reset delay for Q1", 11 D2 (in) "Reset Delay 2; connect to ground via a capacitor to set reset delay and watchdog timing for Q2.", 12 GND (power) "Ground; connect to heatslug.", 13 GND (power) "Interconnect with PCB heatsink area and GND"

## TLE4476D
designator U?
Dual Low Drop Voltage Regulator, 4.5 to 42 V / 5.7 to 42 V Supply, 3.3 V 5 V Output, -40 to 150 degC, PG-TO252-5-11, Reel, Green; Manufacturer: Infineon; PartNumber: TLE4476D; Accuracy: 4 % 4 %; Dropout Voltage: 1200 mV 300 mV; Green: TRUE; Max. Output Current: 350 mA 430 mA; Operating Range: 4.5 to 42 V 5.7 to 42 V; Output Voltage: 3.3V 5V; Regulator Type: multiple output; Typical Quiescent Current: 300 uA; DatasheetVersion: Rev. 2.5; PackageVersion: Nov-10; PackageReference: PG-TO252-5-11; PackageDescription: 5-Pin Plastic (Green) Transistor Single Outline Package, 6.5 x 6.12 mm Body, 1.14 mm Pitch; Supplier 1: Mouser; Supplier Part Number 1: 726-TLE4476D; Supplier 2: Digi-Key; Supplier Part Number 2: TLE4476DTR-ND; Supplier 3: Digi-Key; Supplier Part Number 3: TLE4476DCT-ND; Supplier 4: Digi-Key; Supplier Part Number 4: TLE4476DDKR-ND; Halogen-free: TRUE; Packing: Reel; Mounting Technology: Surface Mount; ComponentLink1Description: Manufacturer URL; ComponentLink1URL: http://www.infineon.com/; ComponentLink2Description: Datasheet; ComponentLink2URL: http://www.infineon.com/dgdl/TLE4476_DS_25%5B1%5D.pdf?folderId=db3a304318f3fe290118f5a433570040&fileId=db3a30431c48a312011c55e0456c0243&location=en.Products.Automotive_ICs.Linear_Voltage_Regulators_for_Automotive-Applications.Linear_Voltage_Regulators_-_Selection_Table.DATASHEET.TLE4476_DS_25[1].pdf; ComponentLink3Description: Package Specification; ComponentLink3URL: http://www.infineon.com/dgdl/TLE7276-Data+Sheet-+v1_11.pdf?folderId=db3a304412b407950112b408e8c90004&fileId=db3a304412b407950112b436c53f66c8&sId=db3a30433db6f09f013dc0e43c0428c1
footprint INF-PG-TO252-5-11_N (DPAK, 5-Leads, Body 6.5x6.12mm, Pitch 1.14mm, IPC Medium Density)
footprint INF-PG-TO252-5-11_L (DPAK, 5-Leads, Body 6.5x6.12mm, Pitch 1.14mm, IPC High Density)
footprint INF-PG-TO252-5-11_M (DPAK, 5-Leads, Body 6.5x6.12mm, Pitch 1.14mm, IPC Low Density)
pins: 1 I (power) "Input voltage; block to GND directly at the IC with a ceramic capacitor", 2 Q1 (power) "3.3 V output; block to GND with a capacitor CQ1 >= 10 uF, ESR < 2 ohm at 10 kHz", 3 GND (power) "Ground", 4 Q2 (power) "5.0 V output; block to GND with a capacitor CQ2 >= 10 uF, ESR < 3 ohm at 10 kHz", 5 EN (in) "Enable input; to switch ON and OFF Q2, ON with high signal"

## TLE4675D
designator U?
Low Drop Linear Voltage Regulator, 5.5 to 45 V Supply, 5 V Output, -40 to 150 degC, PG-TO252-5-11, Reel, Green; Manufacturer: Infineon; PartNumber: TLE4675D; Accuracy: 2 %; Dropout Voltage: 250 mV; Green: TRUE; Max. Output Current: 400 mA; Output Voltage: 5V; Regulator Type: single output; Typical Quiescent Current: 65 uA; DatasheetVersion: Rev. 1.0; PackageVersion: Nov-10; PackageReference: PG-TO252-5-11; PackageDescription: 5-Pin Plastic (Green) Transistor Single Outline Package, 6.5 x 6.12 mm Body, 1.14 mm Pitch; Supplier 1: Mouser; Supplier Part Number 1: 726-TLE4675D; Supplier 2: Digi-Key; Supplier Part Number 2: TLE4675DTR-ND; Supplier 3: Digi-Key; Supplier Part Number 3: TLE4675DCT-ND; Supplier 4: Digi-Key; Supplier Part Number 4: TLE4675DDKR-ND; Halogen-free: TRUE; Operating Range: 5.5 to 45 V; Packing: Reel; Mounting Technology: Surface Mount; ComponentLink1Description: Manufacturer URL; ComponentLink1URL: http://www.infineon.com/; ComponentLink2Description: Datasheet; ComponentLink2URL: http://www.infineon.com/dgdl/TLE4675_DS10.pdf?folderId=db3a30431ddc9372011e26863f92474e&fileId=db3a30431ff9881501201fa645654e52&location=en.Products.Automotive_ICs.Linear_Voltage_Regulators_for_Automotive-Applications.Linear_Voltage_Regulators_-_Selection_Table.DATASHEET.TLE4675_DS10.pdf; ComponentLink3Description: Package Specification; ComponentLink3URL: http://www.infineon.com/dgdl/TLE7276-Data+Sheet-+v1_11.pdf?folderId=db3a304412b407950112b408e8c90004&fileId=db3a304412b407950112b436c53f66c8&sId=db3a30433db6f09f013dc0e43c0428c1
footprint INF-PG-TO252-5-11_N (DPAK, 5-Leads, Body 6.5x6.12mm, Pitch 1.14mm, IPC Medium Density)
footprint INF-PG-TO252-5-11_L (DPAK, 5-Leads, Body 6.5x6.12mm, Pitch 1.14mm, IPC High Density)
footprint INF-PG-TO252-5-11_M (DPAK, 5-Leads, Body 6.5x6.12mm, Pitch 1.14mm, IPC Low Density)
pins: 1 I (power) "Input, for compensating line influences, a capacitor to GND close to the IC terminals is  recommended", 2 RO (oc) "Reset Output, open collector output; external pull-up resistor to a positive potential required; leave open if the reset function is not needed", 3 GND (power) "Ground, connect to heatsink area", 4 D (in) "Reset Delay Timing, connect a ceramic capacitor to GND for adjusting the reset delay time; leave open if the reset function is not needed", 5 Q (power) "Output, block to GND with a capacitor close to the IC terminals, respecting the values given  for its capacitance CQ and ESR in the table “Functional Range?on Page 8"

## TLE4675G
designator U?
Low Drop Linear Voltage Regulator, 5.5 to 45 V Supply, 5 V Output, -40 to 150 degC, PG-TO263-5-1, Reel, Green; Manufacturer: Infineon; PartNumber: TLE4675G; Accuracy: 2 %; Dropout Voltage: 250 mV; Green: TRUE; Max. Output Current: 400 mA; Output Voltage: 5V; Regulator Type: single output; Typical Quiescent Current: 65 uA; DatasheetVersion: Rev. 1.0; PackageVersion: Sep-08; PackageReference: PG-TO263-5-1; PackageDescription: 5-Pin Plastic (Green) Transistor Single Outline Package, 10 x 9.25 mm Body, 1.7 mm Pitch; Supplier 1: Mouser; Supplier Part Number 1: 726-TLE4675G; Supplier 2: Digi-Key; Supplier Part Number 2: TLE4675GINTR-ND; Supplier 3: Digi-Key; Supplier Part Number 3: TLE4675GINCT-ND; Supplier 4: Digi-Key; Supplier Part Number 4: TLE4675GINDKR-ND; Halogen-free: TRUE; Operating Range: 5.5 to 45 V; Packing: Reel; Mounting Technology: Surface Mount; ComponentLink1Description: Manufacturer URL; ComponentLink1URL: http://www.infineon.com/; ComponentLink2Description: Datasheet; ComponentLink2URL: http://www.infineon.com/dgdl/TLE4675_DS10.pdf?folderId=db3a30431ddc9372011e26863f92474e&fileId=db3a30431ff9881501201fa645654e52&location=en.Products.Automotive_ICs.Linear_Voltage_Regulators_for_Automotive-Applications.Linear_Voltage_Regulators_-_Selection_Table.DATASHEET.TLE4675_DS10.pdf; ComponentLink3Description: Package Specification; ComponentLink3URL: http://www.infineon.com/dgdl/TLE4675_DS10.pdf?folderId=db3a30431ddc9372011e26863f92474e&fileId=db3a30431ff9881501201fa645654e52&sId=db3a30433d68e984013d8b6677a5267d
footprint INF-PG-TO263-5-1_N (DPAK, 5-Leads, Body 10x9.25mm, Pitch 1.7mm, IPC Medium Density)
footprint INF-PG-TO263-5-1_L (DPAK, 5-Leads, Body 10x9.25mm, Pitch 1.7mm, IPC High Density)
footprint INF-PG-TO263-5-1_M (DPAK, 5-Leads, Body 10x9.25mm, Pitch 1.7mm, IPC Low Density)
pins: 1 I (power) "Regulator Input and IC Supply For compensating line influences, a capacitor to GND close to the IC pin is recommended.", 2 ~{RO} (oc) "Reset Output Open collector output; external pull up resistor required; Leave open if the reset function is not needed.", 4 D (in) "Reset Delay Timing Connect a ceramic capacitor from D (Pin 4) to GND for the reset delay timing adjustment; Leave open, if reset functionality is not used.", 5 Q (power) "5 V Regulator Output Connect a capacitor between Q (Pin 5) and GND close to the IC pins, respecting capacitance and ESR requirements given in the Chapter 4.2 Functional Range.", 6 GND (power) "Ground, Cooling TAB Connect to heatsink area"